# Altium footprint library CRYSTAL_OSC.PcbLib: 53 footprints (part 4 of 4)
Each footprint in its own frame and in the unit in brackets; x right, y up, seen from the top. Pads: shape width x height; smd on the part's side, far side on the other; paste and mask are expansions set on the pad; w line width, h text height; cw(c..) or ccw(c..) is an arc to the next point about the centre after c.
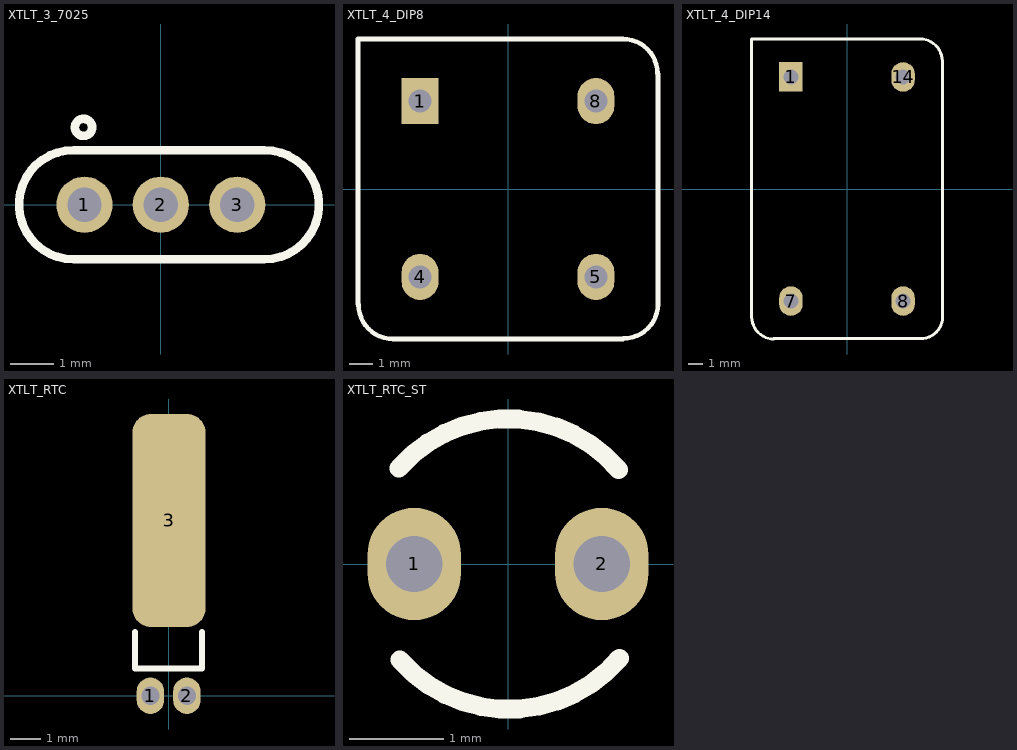
[diagram p3: the footprints below, top view; thin cyan lines are the x and y axes]

## XTLT_3_7025 [mm] "Crystal 3p, pitch:1.8mm, 7x2.5mm"
pads (3):
  round 1.308 hole 0.8: 1(-1.778,0) 2(0,0) 3(1.778,0)
Top Overlay:
  circle w0.2: c-1.8,1.8 r0.2
  lines w0.2: -2.032,-1.27 cw(c-2.032,0) -2.032,1.27 2.413,1.27 cw(c2.413,0) 2.413,-1.27 -2.032,-1.27

## XTLT_4_DIP8 [mm] "HO-22, 13X13mm, Crystal oscillator DIP-8"
pads (4):
  rect 1.6x2 hole 1: 1(-3.81,3.81)
  oval 1.6x2 hole 1: 4(-3.81,-3.81) 5(3.81,-3.81) 8(3.81,3.81)
Top Overlay:
  lines w0.2: -6.5,-5 -6.5,6.5 5,6.5 ; -6.48,-5 ccw(c-4.98,-5) -4.98,-6.5 ; -5,-6.5 5,-6.5 ; 4.98,6.5 cw(c4.98,5) 6.48,5 ; 5,-6.48 ccw(c5,-4.98) 6.5,-4.98 6.5,5
3D body "User Library-OSC_DIP-8.STEP": height 5.6, standoff -1, extent -6.35,-6.35 6.35,6.35

## XTLT_4_DIP14 [mm] "HO-12, 20X13mm, Crystal oscillator DIP-14"
pads (4):
  rect 1.6x2 hole 1: 1(-3.81,7.62)
  oval 1.6x2 hole 1: 7(-3.81,-7.62) 8(3.81,-7.62) 14(3.81,7.62)
Top Overlay:
  lines w0.2: -6.5,-8.7 -6.5,10.2 4.98,10.2 cw(c4.98,8.7) 6.48,8.7 ; -6.48,-8.7 ccw(c-4.98,-8.7) -4.98,-10.2 ; -4.98,-10.18 5,-10.18 ccw(c5,-8.68) 6.5,-8.68 6.5,8.7
3D body "User Library-OSC_DIP-14.step": height 4.6, standoff -2, extent -6.35,-10.1 6.35,10.1

## XTLT_RTC [mm] "CRYSTAL RTC SLEEP, AB26T"
height 2.3
pads (3):
  oval 0.9x1.2 hole 0.6 mask+0.1: 1(-0.6,0) 2(0.6,0)
  rrect50% 2.4x7 smd: 3(0.011,5.763)
Top Overlay:
  lines w0.2: -1.1,2.1 -1.1,0.9 1.1,0.9 1.1,2.1
3D body "User Library-DT-26-1.step": height 2, standoff -2, extent -1,-0.1 1,7.04

## XTLT_RTC_ST [mm] "CRYSTAL RTC STAND, AB26T"
height 2.3
pads (2):
  oval 1x1.2 hole 0.6: 1(-1,0) 2(1,0)
Top Overlay:
  lines w0.2: -1.165,1.022 cw(c0,0) 1.179,1.006 ; -1.155,-1.022 ccw(c0.01,0) 1.189,-1.006
3D body "Crystal TH.STEP": height 8.98, standoff -1.8, extent -1.725,-1.6 1.725,1.6